# EAGLE library part PIC18F2*8 (library Julian_microchip)
28-Pin High Performance, Enhanced FLASH Microcontrollers with CAN device program memory (bytes) data RAM (bytes) PIC18F248 16K 768 PIC18F258 32K 1536
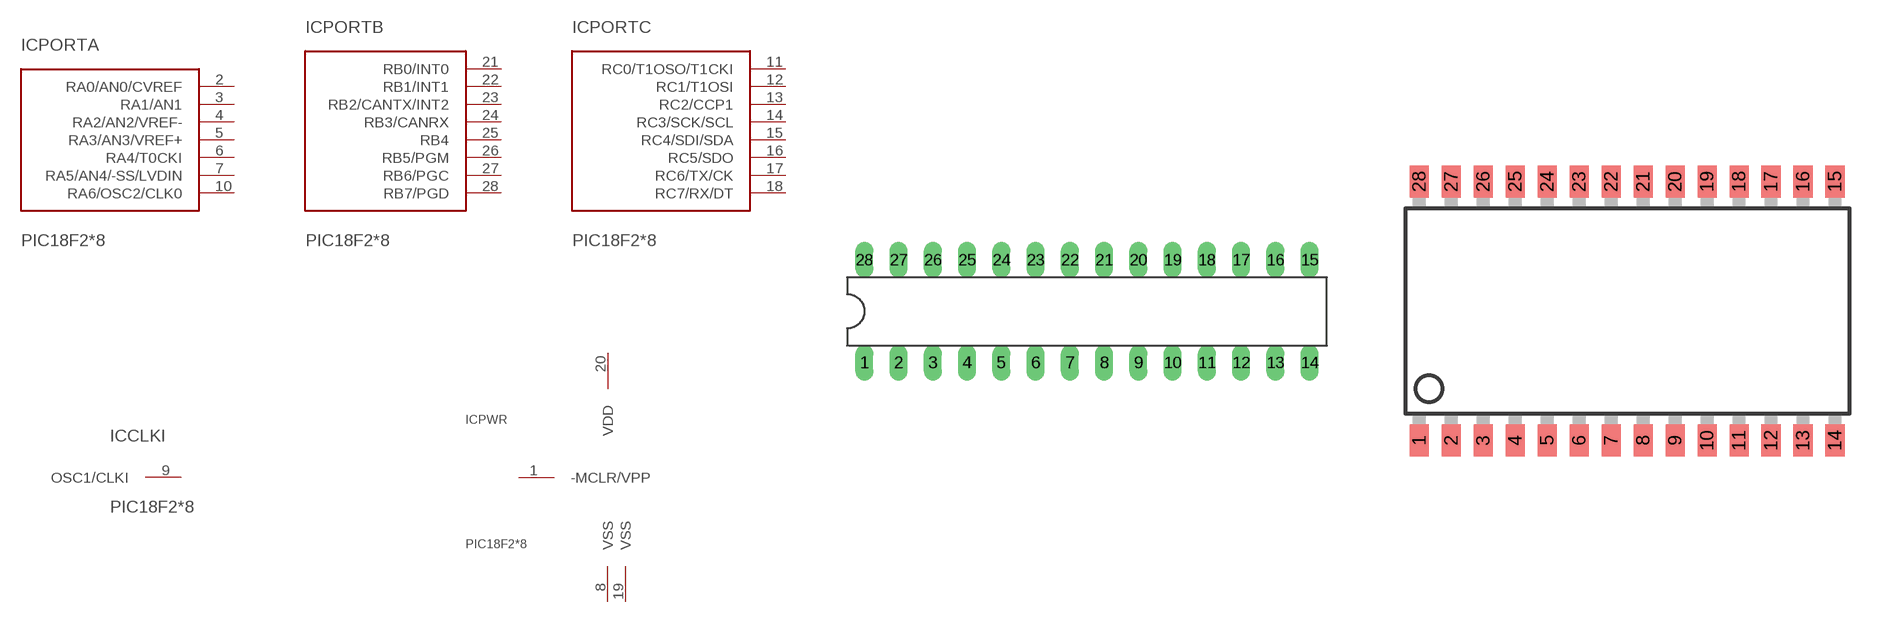
[diagram p2: symbol with the pads of DIL28-3; footprints DIL28-3, SO-28W]

Designator prefix IC; gates PORTA=PIC18FXX8-PORTA PORTB=PIC18FXX8-PORTB PORTC=PIC18FXX8-PORTC CLKI=PIC18FXX8-OSC1/CLKI PWR=PIC18F2X8-POWER

## PIC18F248-I/SP, PIC18F258-I/SP  [DIL28-3]
1  PWR:-MCLR/VPP  in
2  PORTA:RA0/AN0/CVREF
3  PORTA:RA1/AN1
4  PORTA:RA2/AN2/VREF-
5  PORTA:RA3/AN3/VREF+
6  PORTA:RA4/T0CKI
7  PORTA:RA5/AN4/-SS/LVDIN
8  PWR:VSS  pwr
9  CLKI:OSC1/CLKI  in
10  PORTA:RA6/OSC2/CLK0
11  PORTC:RC0/T1OSO/T1CKI
12  PORTC:RC1/T1OSI
13  PORTC:RC2/CCP1
14  PORTC:RC3/SCK/SCL
15  PORTC:RC4/SDI/SDA
16  PORTC:RC5/SDO
17  PORTC:RC6/TX/CK
18  PORTC:RC7/RX/DT
19  PWR:VSS  pwr
20  PWR:VDD  pwr
21  PORTB:RB0/INT0
22  PORTB:RB1/INT1
23  PORTB:RB2/CANTX/INT2
24  PORTB:RB3/CANRX
25  PORTB:RB4
26  PORTB:RB5/PGM
27  PORTB:RB6/PGC
28  PORTB:RB7/PGD

## PIC18F248-E/SP, PIC18F258-E/SP  [DIL28-3]
Pads as for DIL28-3

## PIC18F248-E/SO, PIC18F258-E/SO  [SO-28W]
Pads as for DIL28-3

## PIC18F248-I/SO, PIC18F258-I/SO  [SO-28W]
Pads as for DIL28-3

## Footprint DIL28-3 (pad centres in mm)
Dual In Line package type P
drill 0.813 long: 1 -16.51,-3.81; 2 -13.97,-3.81; 3 -11.43,-3.81; 4 -8.89,-3.81; 5 -6.35,-3.81; 6 -3.81,-3.81; 7 -1.27,-3.81; 8 1.27,-3.81; 9 3.81,-3.81; 10 6.35,-3.81; 11 8.89,-3.81; 12 11.43,-3.81; 13 13.97,-3.81; 14 16.51,-3.81; 15 16.51,3.81; 16 13.97,3.81; 17 11.43,3.81; 18 8.89,3.81; 19 6.35,3.81; 20 3.81,3.81; 21 1.27,3.81; 22 -1.27,3.81; 23 -3.81,3.81; 24 -6.35,3.81; 25 -8.89,3.81; 26 -11.43,3.81; 27 -13.97,3.81; 28 -16.51,3.81

## Footprint SO-28W (pad centres in mm)
Small Outline Wide Plastic Gull Wing 300-mil body, package type SO
smd 0.762 x 1.27: 1 -7.62,-5.207; 2 -6.35,-5.207; 3 -5.08,-5.207; 4 -3.81,-5.207; 5 -2.54,-5.207; 6 -1.27,-5.207; 7 0,-5.207; 8 1.27,-5.207; 9 2.54,-5.207; 10 3.81,-5.207; 11 5.08,-5.207; 12 6.35,-5.207; 13 7.62,-5.207; 14 8.89,-5.207; 15 8.89,5.08; 16 7.62,5.08; 17 6.35,5.08; 18 5.08,5.08; 19 3.81,5.08; 20 2.54,5.08; 21 1.27,5.08; 22 0,5.08; 23 -1.27,5.08; 24 -2.54,5.08; 25 -3.81,5.08; 26 -5.08,5.08; 27 -6.35,5.08; 28 -7.62,5.08